# Altium schematic symbol library GhaniLibrary.SchLib: 58 symbols
Pins are listed as number, name and electrical type; pins without a type are passive.

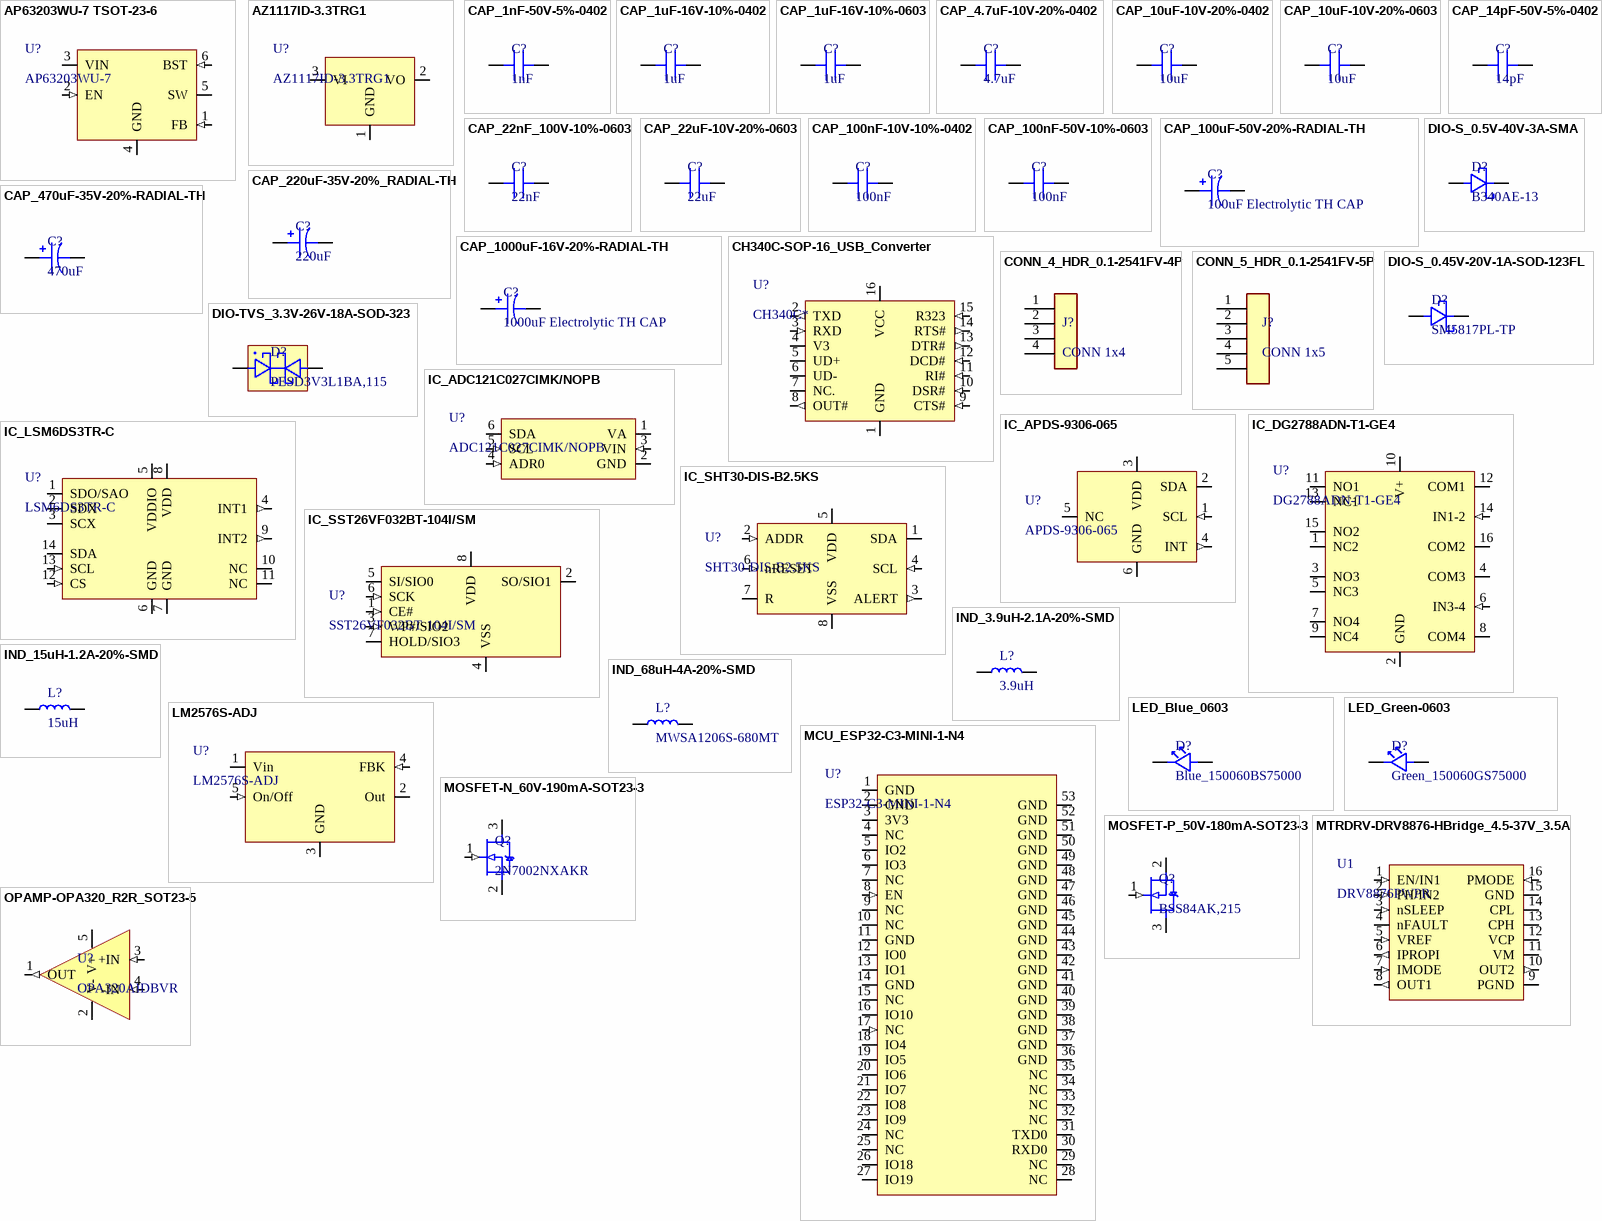
[diagram p0: symbols AP63203WU-7 TSOT-23-6 to OPAMP-OPA320_R2R_SOT23-5]

## AP63203WU-7 TSOT-23-6
designator U?, comment AP63203WU-7
Buck Switching Regulator IC Positive Fixed 3.3V 1 Output 2A SOT-23-6 Thin, TSOT-23-6; Manufacturer: Diodes Incorporated; Manufacturer Part #: AP63203WU-7; Case/Package: TSOT-23-6; Supplier: JLCPCB; Supplier Part #: C780769
footprint SOT-23-6 Thin, TSOT-23-6 (SOT23, 6-Leads, Body 2.90x2.80mm, Pitch 0.95mm, IPC Medium Density)
pins: 1 FB (in), 2 EN (in), 3 VIN (power), 4 GND (power), 5 SW (power), 6 BST (in)

## AZ1117ID-3.3TRG1
designator U?
Linear Voltage Regulator IC Positive Fixed 1 Output 1A TO-252-3; Manufacturer: Diodes Incorporated; Manufacturer Part #: AZ1117ID-3.3TRG1; Case/Package: TO-252-2; Supplier: JLCPCB; Supplier Part #: C2926306
footprint TO-252-3, DPAK (2 Leads + Tab), SC-63 (D-PAK, 3-Pads (2 Leads + Tab), IPC Medium Density)
pins: 1 GND (power), 2 VO (power), 3 VI (power)

## CAP_1nF-50V-5%-0402
designator C?, comment 1nF
1000 pF ±5% 50V Ceramic Capacitor C0G, NP0 0402 (1005 Metric); Manufacturer: Murata Electronics; Manufacturer Part #: GRM1555C1H102JA01D; Case/Package: 0402; Supplier: JLCPCB; Supplier Part #: C76947
footprint CAP_0402 (Chip Capacitor, 2-Leads, Body 1.00x0.50mm, IPC Medium Density)
pins: 1 0, 2 0

## CAP_1uF-16V-10%-0402
designator C?, comment 1uF
1 µF ±10% 16V Ceramic Capacitor X5R 0402 (1005 Metric); Manufacturer: Samsung Electro-Mechanics; Manufacturer Part #: CL05A105KO5NNNC; Case/Package: 0402; Supplier: JLCPCB; Supplier Part #: C29266
footprint CAP_0402 (Chip Capacitor, 2-Leads, Body 1.00x0.50mm, IPC Medium Density)
pins: 1 0, 2 0

## CAP_1uF-16V-10%-0603
designator C?, comment 1uF
1 µF ±10% 16V Ceramic Capacitor X7R 0603 (1608 Metric); Manufacturer: YAGEO; Manufacturer Part #: CC0603KRX7R7BB105; Case/Package: 0603; Supplier: JLCPCB; Supplier Part #: C106248
footprint CAP_0603 (Chip Capacitor, 2-Leads, Body 1.60x0.80mm, IPC Medium Density)
pins: 1 0, 2 0

## CAP_4.7uF-10V-20%-0402
designator C?, comment 4.7uF
4.7 µF ±20% 10V Ceramic Capacitor X5R 0402 (1005 Metric); Manufacturer: Samsung Electro-Mechanics; Manufacturer Part #: CL05A475MP5NRNC; Case/Package: 0402; Supplier: JLCPCB; Supplier Part #: Supplier Part #
footprint CAP_0402 (Chip Capacitor, 2-Leads, Body 1.00x0.50mm, IPC Medium Density)
pins: 1 0, 2 0

## CAP_10uF-10V-20%-0402
designator C?, comment 10uF
10 µF ±20% 10V Ceramic Capacitor X5R 0402 (1005 Metric); Manufacturer: Murata Electronics; Manufacturer Part #: GRM155R61A106ME11D; Case/Package: 0402; Supplier: JLCPCB; Supplier Part #: C408132
footprint CAP_0402 (Chip Capacitor, 2-Leads, Body 1.00x0.50mm, IPC Medium Density)
pins: 1 0, 2 0

## CAP_10uF-10V-20%-0603
designator C?, comment 10uF
10 µF ±20% 10V Ceramic Capacitor X5R 0603 (1608 Metric); Manufacturer: Murata Electronics; Manufacturer Part #: GRM188R61A106ME69D; Case/Package: 0603; Supplier: JLCPCB; Supplier Part #: C90053
footprint CAP_0603 (Chip Capacitor, 2-Leads, Body 1.60x0.80mm, IPC Medium Density)
pins: 1 0, 2 0

## CAP_14pF-50V-5%-0402
designator C?, comment 14pF
50V 14pF NP0 ±5% 0402 Multilayer Ceramic Capacitors MLCC - SMD/SMT ROHS; Manufacturer: Walsin Tech Corp; Manufacturer Part #: 0402N140J500CT; Case/Package: 0402; Supplier: JLCPCB; Supplier Part #: C458857
footprint CAP_0402 (Chip Capacitor, 2-Leads, Body 1.00x0.50mm, IPC Medium Density)
pins: 1 0, 2 0

## CAP_22nF_100V-10%-0603
designator C?, comment 22nF
0.022 µF ±10% 100V Ceramic Capacitor X7R 0603 (1608 Metric); Manufacturer: Murata Electronics; Manufacturer Part #: GCM188R72A223KA37D; Case/Package: 0603; Supplier: JLCPCB; Supplier Part #: C161234
footprint CAP_0603 (Chip Capacitor, 2-Leads, Body 1.60x0.80mm, IPC Medium Density)
pins: 1 0, 2 0

## CAP_22uF-10V-20%-0603
designator C?, comment 22uF
22 µF ±20% 10V Ceramic Capacitor X5R 0603 (1608 Metric); Manufacturer: Samsung Electro-Mechanics; Manufacturer Part #: CL10A226MP8NUNE; Case/Package: 0603; Supplier: JLCPCB; Supplier Part #: C86295
footprint CAP_0603 (Chip Capacitor, 2-Leads, Body 1.60x0.80mm, IPC Medium Density)
pins: 1 0, 2 0

## CAP_100nF-10V-10%-0402
designator C?, comment 100nF
0.1 µF ±10% 10V Ceramic Capacitor X7R 0402 (1005 Metric); Manufacturer: Samsung Electro-Mechanics; Manufacturer Part #: CL05B104KP5NNNC; Case/Package: 0402; Supplier: JLCPCB; Supplier Part #: C133086
footprint CAP_0402 (Chip Capacitor, 2-Leads, Body 1.00x0.50mm, IPC Medium Density)
pins: 1 0, 2 0

## CAP_100nF-50V-10%-0603
designator C?, comment 100nF
0.1 µF ±10% 50V Ceramic Capacitor X7R 0603 (1608 Metric); Manufacturer: KEMET; Manufacturer Part #: C0603C104K5RACAUTO; Case/Package: 0603; Supplier: JLCPCB; Supplier Part #: C129621
footprint CAP_0603 (Chip Capacitor, 2-Leads, Body 1.60x0.80mm, IPC Medium Density)
pins: 1 0, 2 0

## CAP_100uF-50V-20%-RADIAL-TH
designator C?, comment 100uF Electrolytic TH CAP
100 µF 50 V Aluminum Electrolytic Capacitors Radial, Can 8000 Hrs @ 105°C; Manufacturer: Rubycon; Manufacturer Part #: 50ZLH100MEFC8X11.5; Case/Package: TH,D8xL11.5mm; Supplier: JLCPCB; Supplier Part #: C109393
footprint CAP-THT-Radial__D5.0mmP3.5mm
pins: 1 0, 2 0

## CAP_220uF-35V-20%_RADIAL-TH
designator C?, comment 220uF
220 µF 35 V Aluminum Electrolytic Capacitors Radial, Can 8000 Hrs @ 105°C; Manufacturer: Rubycon; Manufacturer Part #: 35ZLH220MEFC8X11.5; Case/Package: TH,D8xL11.5mm; Supplier: JLCPCB; Supplier Part #: C107639
footprint CAP-THT-Radial__D8.0mmP3.5mm
pins: 1 0, 2 0

## CAP_470uF-35V-20%-RADIAL-TH
designator C?, comment 470uF
470 µF 35 V Aluminum Electrolytic Capacitors Radial, Can 10000 Hrs @ 105°C; Manufacturer: Rubycon; Manufacturer Part #: 35ZLH470MEFC10X16; Case/Package: TH,D10xL16mm; Supplier: JLCPCB; Supplier Part #: C338196
footprint CAP-THT_RADIAL_D10.00mm_P5.00mm
pins: 1 0, 2 0

## CAP_1000uF-16V-20%-RADIAL-TH
designator C?, comment 1000uF Electrolytic TH CAP
1000 µF 16 V Aluminum Electrolytic Capacitors Radial, Can 10000 Hrs @ 105°C; Manufacturer: Rubycon; Manufacturer Part #: 16ZLH1000MEFC10X16; Case/Package: TH,D10xL16mm; Supplier: JLCPCB; Supplier Part #: C338175
footprint CAP-THT_RADIAL_D10.00mm_P5.00mm
pins: 1 0, 2 0

## CH340C-SOP-16_USB_Converter
designator U?, comment CH340C*
2Mbps Transceiver USB 2.0 SOP-16 USB Converters ROHS; Manufacturer: WCH(Jiangsu Qin Heng); Manufacturer Part #: CH340C; Case/Package: SOP-16; Supplier: JLCPCB; Supplier Part #: C7464026
footprint SOP-16 (SOP, 16-Leads, Body 9.90x3.90mm, Pitch 1.27mm, IPC Medium Density)
pins: 1 GND (power), 2 TXD (out), 3 RXD (in), 4 V3 (power), 5 UD+ (io), 6 UD- (io), 7 NC., 8 OUT# (out), 9 CTS# (in), 10 DSR# (in), 11 RI# (in), 12 DCD# (in), 13 DTR# (out), 14 RTS# (out), 15 R323 (in), 16 VCC (power)

## CONN_4_HDR_0.1-2541FV-4P
designator J?, comment CONN 1x4
2.54mm 3A Single Row 4P -40℃~+105℃ 250V Direct Insert 1x4P Top Square Hole Plugin,P=2.54mm Female Headers ROHS; Manufacturer: HanElectricity; Manufacturer Part #: 2541FV-4P; Case/Package: P=2.54mm; Supplier: JLCPCB; Supplier Part #: C18723049
footprint 2541FV-4P
pins: 1, 2, 3, 4

## CONN_5_HDR_0.1-2541FV-5P
designator J?, comment CONN 1x5
2.54mm 3A Single Row -40℃~+105℃ 250V 5P Direct Insert 1x5P Top Square Hole Plugin,P=2.54mm Female Headers ROHS; Manufacturer: HanElectricity; Manufacturer Part #: 2541FV-5P; Case/Package: P=2.54mm; Supplier: JLCPCB; Supplier Part #: C18723050
footprint 2541FV-5P
pins: 1, 2, 3, 4, 5

## DIO-S_0.5V-40V-3A-SMA
designator D?, comment B340AE-13
Diode 40 V 3A Surface Mount SMA; Manufacturer: DIODES INCORPORATED; Manufacturer Part #: B340AE-13; Case/Package: SMA; Supplier: JLCPCB; Supplier Part #: C168859
footprint DO-214AC, SMA
pins: A 1, K 2

## DIO-S_0.45V-20V-1A-SOD-123FL
designator D?, comment SM5817PL-TP
Diode 20 V 1A Surface Mount SOD-123FL; Manufacturer: MCC(Micro Commercial Components); Manufacturer Part #: SM5817PL-TP; Case/Package: SOD-123FL; Supplier: JLCPCB; Supplier Part #: C669022
footprint DIO-SOD-123FL
pins: A 1, K 2

## DIO-TVS_3.3V-26V-18A-SOD-323
designator D?, comment PESD3V3L1BA,115
26V Clamp 18A (8/20µs) Ipp Tvs Diode Surface Mount SOD-323; Manufacturer: Nexperia; Manufacturer Part #: PESD3V3L1BA,115; Case/Package: SOD-323; Supplier: JLCPCB; Supplier Part #: C51450
footprint SC-76, SOD-323 (SODFL, 2-Leads, Body 1.25x2.50mm, IPC Medium Density)
pins: K1 1, K2 2

## IC_ADC121C027CIMK/NOPB
designator U?, comment ADC121C027CIMK/NOPB
12 Bit Analog to Digital Converter 1 Input 1 SAR TSOT-23-6; Manufacturer: Texas Instruments; Manufacturer Part #: ADC121C027CIMK/NOPB; Case/Package: TSOT-23-6L; Supplier: JLCPCB; Supplier Part #: C201638
footprint SOT-23-6 Thin, TSOT-23-6 (SOT23, 6-Leads, Body 2.90x2.80mm, Pitch 0.95mm, IPC Medium Density)
pins: 1 VA (power), 2 GND (power), 3 VIN (in), 4 ADR0 (in), 5 SCL (in), 6 SDA (io)

## IC_APDS-9306-065
designator U?, comment APDS-9306-065
Optical Sensor Ambient 560nm I2C 6-SMD Module; Manufacturer: Broadcom/AVAGO; Manufacturer Part #: APDS-9306-065; Case/Package: 6-SMD Module; Supplier: JLCPCB; Supplier Part #: C2649498
footprint APDS-9306-065
pins: 1 SCL (in), 2 SDA (io), 3 VDD (power), 4 INT (out), 5 NC, 6 GND (power)

## IC_DG2788ADN-T1-GE4
designator U?, comment DG2788ADN-T1-GE4
2 Circuit IC Switch 2:1 500mOhm 16-miniQFN (1.8x2.6); Manufacturer: Vishay Intertech; Manufacturer Part #: DG2788ADN-T1-GE4; Case/Package: UQFN-16(1.8x2.6); Supplier: JLCPCB; Supplier Part #: C222479
footprint UQFN-16-DG2788ADN-T1-GE4 (QFN, 16-Leads, Body 1.80x2.60mm, Pitch 0.40mm, IPC Medium Density)
pins: 1 NC2 (io), 2 GND (power), 3 NO3 (io), 4 COM3 (io), 5 NC3 (io), 6 IN3-4 (in), 7 NO4 (io), 8 COM4 (io), 9 NC4 (io), 10 V+ (power), 11 NO1 (io), 12 COM1 (io), 13 NC1 (io), 14 IN1-2 (in), 15 NO2 (io), 16 COM2 (io)

## IC_LSM6DS3TR-C
designator U?, comment LSM6DS3TR-C
Accelerometer, Gyroscope, Temperature, 6 Axis Sensor I2C, SPI Output; Manufacturer: STMicroelectronics; Manufacturer Part #: LSM6DS3TR-C; Case/Package: LGA-14(2.5x3); Supplier: JLCPCB; Supplier Part #: C967633
footprint LGA-14_LSM6DS3TR-C
pins: 1 SDO/SAO (io), 2 SDX (io), 3 SCX (io), 4 INT1 (out), 5 VDDIO (power), 6 GND (power), 7 GND (power), 8 VDD (power), 9 INT2 (out), 10 NC, 11 NC, 12 CS (in), 13 SCL (in), 14 SDA (io)

## IC_SHT30-DIS-B2.5KS
designator U?, comment SHT30-DIS-B2.5KS
Humidity, Temperature 0 ~ 100% RH I2C ±2% RH 8 s Surface Mount; Manufacturer: Sensirion; Manufacturer Part #: SHT30-DIS-B2.5KS; Case/Package: 8-VFDFN Exposed Pad; Supplier: JLCPCB; Supplier Part #: C77361
footprint 8-VFDFN Exposed Pad (QFN, 8-Leads, Body 2.45x2.45mm, Pitch 0.50mm/0.40mm, Thermal Pad 1.10x1.80mm, IPC Medium Density)
pins: 1 SDA (io), 2 ADDR (in), 3 ALERT (out), 4 SCL (in), 5 VDD (power), 6 nRESET (in), 7 R, 8 VSS (power)

## IC_SST26VF032BT-104I/SM
designator U?, comment SST26VF032BT-104I/SM
FLASH Memory IC 32Mbit SPI - Quad I/O 104 MHz 8-SOIJ; Manufacturer: Microchip Tech; Manufacturer Part #: SST26VF032BT-104I/SM; Case/Package: 8-SOIC; Supplier: JLCPCB; Supplier Part #: C69337
footprint 8-SOIC, 5.26x5.25mm (SOIC, 8-Leads, Body 5.26x5.25mm, Pitch 1.27mm, IPC Medium Density)
pins: 1 CE# (in), 2 SO/SIO1 (io), 3 WP#/SIO2 (in), 4 VSS (power), 5 SI/SIO0 (io), 6 SCK (in), 7 HOLD/SIO3 (io), 8 VDD (power)

## IND_3.9uH-2.1A-20%-SMD
designator L?, comment 3.9uH
3.9 µH Shielded Drum Core, Wirewound Inductor 1.5 A 115mOhm Max Nonstandard; Manufacturer: Sunlord; Manufacturer Part #: SPH3015H3R9MT; Case/Package: SMD,3x3mm; Supplier: JLCPCB; Supplier Part #: C431700
footprint IND_SMD-3.00MMX3.00MM (Precision Wire Wound Inductor, 2-Leads, Body 3.00x3.00mm, IPC Medium Density)
pins: 1, 2

## IND_15uH-1.2A-20%-SMD
designator L?, comment 15uH
15 µH Shielded Drum Core, Wirewound Inductor 1.2 A 198mOhm Max Nonstandard; Manufacturer: Taiyo Yuden; Manufacturer Part #: NRS5020T150MMGJ; Case/Package: SMD,4.9x4.9mm; Supplier: JLCPCB; Supplier Part #: C222920
footprint IND-SMD_ 4.90x4.90mm (Precision Wire Wound Inductor, 2-Leads, Body 4.90x4.90mm, IPC Medium Density)
pins: 1, 2

## IND_68uH-4A-20%-SMD
designator L?, comment MWSA1206S-680MT
68 µH Shielded Drum Core, Wirewound Inductor 4 A 140mOhm Max Nonstandard; Manufacturer: Sunlord; Manufacturer Part #: MWSA1206S-680MT; Case/Package: SMD,13.5x12.6mm; Supplier: JLCPCB; Supplier Part #: C408532
footprint IND-SMD_13.45x12.45mm (Precision Wire Wound Inductor, 2-Leads, Body 13.45x12.45mm, IPC Medium Density)
pins: 1, 2

## LED_Blue_0603
designator D?, comment Blue_150060BS75000
Blue 470nm LED Indication - Discrete 3.2V 0603 (1608 Metric); Manufacturer: Wurth Elektronik; Manufacturer Part #: 150060BS75000; Case/Package: 0603; Supplier: JLCPCB; Supplier Part #: C5197644
footprint LED_0603
pins: 1, 2

## LED_Green-0603
designator D?, comment Green_150060GS75000
Green 520nm LED Indication - Discrete 3.2V 0603 (1608 Metric); Manufacturer: Wurth Elektronik; Manufacturer Part #: 150060GS75000; Case/Package: 0603; Supplier: JLCPCB; Supplier Part #: C5252984
footprint LED_0603
pins: 1, 2

## LM2576S-ADJ
designator U?
Buck Switching Regulator IC Positive Adjustable 1 Output 3A TO-263-6, D2PAK (5 Leads + Tab), TO-263BA; Manufacturer: UMW(Youtai Semiconductor Co., Ltd.); Manufacturer Part #: LM2576S-ADJ; Case/Package: TO-263-5; Supplier: JLCPCB; Supplier Part #: C347415
footprint TO-263-6, D2PAK (5 Leads + Tab), TO-263BA (D2-PAK, 6-Pads (5 Leads + Tab), Body 7.55x8.56mm (max), IPC Medium Density)
pins: 1 Vin (power), 2 Out (power), 3 GND (power), 4 FBK (in), 5 On/Off (in)

## MCU_ESP32-C3-MINI-1-N4
designator U?, comment ESP32-C3-MINI-1-N4
Bluetooth, WiFi 802.11b/g/n, Bluetooth v5.0 Transceiver Module 2.412GHz ~ 2.484GHz PCB Trace Surface Mount; Manufacturer: Espressif Systems; Manufacturer Part #: ESP32-C3-MINI-1-N4; Case/Package: 53-SMD Module; Supplier: JLCPCB; Supplier Part #: C2838502
footprint ESP32­C3­MINI­1
pins: 1 GND (power), 2 GND (power), 3 3V3 (power), 4 NC, 5 IO2 (io), 6 IO3 (io), 7 NC, 8 EN (in), 9 NC, 10 NC, 11 GND (power), 12 IO0 (io), 13 IO1 (io), 14 GND (power), 15 NC, 16 IO10 (io), 17 NC (in), 18 IO4 (io), 19 IO5 (io), 20 IO6 (io), 21 IO7 (io), 22 IO8 (io), 23 IO9 (io), 24 NC, 25 NC, 26 IO18 (io), 27 IO19 (io), 28 NC, 29 NC, 30 RXD0 (io), 31 TXD0 (io), 32 NC, 33 NC, 34 NC, 35 NC, 36 GND (power), 37 GND (power), 38 GND (power), 39 GND (power), 40 GND (power), 41 GND (power), 42 GND (power), 43 GND (power), 44 GND (power), 45 GND (power), 46 GND (power), 47 GND (power), 48 GND (power), 49 GND (power), 50 GND (power), 51 GND (power), 52 GND (power), 53 GND (power)

## MOSFET-N_60V-190mA-SOT23-3
designator Q?, comment 2N7002NXAKR
N-Channel 60 V 190mA (Ta), 300mA (Tc) 265mW (Ta), 1.33W (Tc) Surface Mount TO-236AB; Manufacturer: Nexperia; Manufacturer Part #: 2N7002NXAKR; Case/Package: SOT23-3; Supplier: JLCPCB; Supplier Part #: C551416
footprint SOT23-3 (SOT23, 3-Leads, Body 2.90x2.30mm, Pitch 0.95mm, IPC Medium Density)
pins: 1 G (in), 2 S, 3 D

## MOSFET-P_50V-180mA-SOT23-3
designator Q?, comment BSS84AK,215
P-Channel 50 V 180mA (Ta) 350mW (Ta), 1.14W (Tc) Surface Mount TO-236AB; Manufacturer: Nexperia; Manufacturer Part #: BSS84AK,215; Case/Package: SOT-23-3; Supplier: JLCPCB; Supplier Part #: C127273
footprint SOT23-3 (SOT23, 3-Leads, Body 2.90x2.30mm, Pitch 0.95mm, IPC Medium Density)
pins: 1 G (in), 2 S, 3 D

## MTRDRV-DRV8876-HBridge_4.5-37V_3.5A
designator U1, comment DRV8876PWPR
DRV8876 H-Bridge Motor Driver With Integrated Current Sense and Regulation 16-HTSSOP; Manufacturer: Texas Instruments; Manufacturer Part #: DRV8876PWPR; Case/Package: HTSSOP-16-EP; Supplier: JLCPCB; Supplier Part #: C575551
footprint 16-HTSSOP (HTSSOP, 16-Leads, Body 5.00x4.40mm, Pitch 0.65mm, Thermal Pad 2.31x2.46mm, IPC Medium Density)
pins: 1 EN/IN1 (in), 2 PH/IN2 (in), 3 nSLEEP (in), 4 nFAULT (oc), 5 VREF (in), 6 IPROPI (out), 7 IMODE (in), 8 OUT1 (out), 9 PGND (power), 10 OUT2 (out), 11 VM (power), 12 VCP (power), 13 CPH (power), 14 CPL (power), 15 GND (power), 16 PMODE (in)

## OPAMP-OPA320_R2R_SOT23-5
designator U?, comment OPA320AIDBVR
General Purpose Amplifier 1 Circuit Rail-to-Rail SOT-23-5; Manufacturer: Texas Instruments; Manufacturer Part #: OPA320AIDBVR; Case/Package: SOT-23-5; Supplier: JLCPCB; Supplier Part #: C92494
footprint SOT-23-5 (SOT23, 5-Leads, Body 2.90x2.80mm, Pitch 0.95mm, IPC Medium Density)
pins: 1 OUT (out), 2 V- (power), 3 +IN (in), 4 -IN (in), 5 V+ (power)

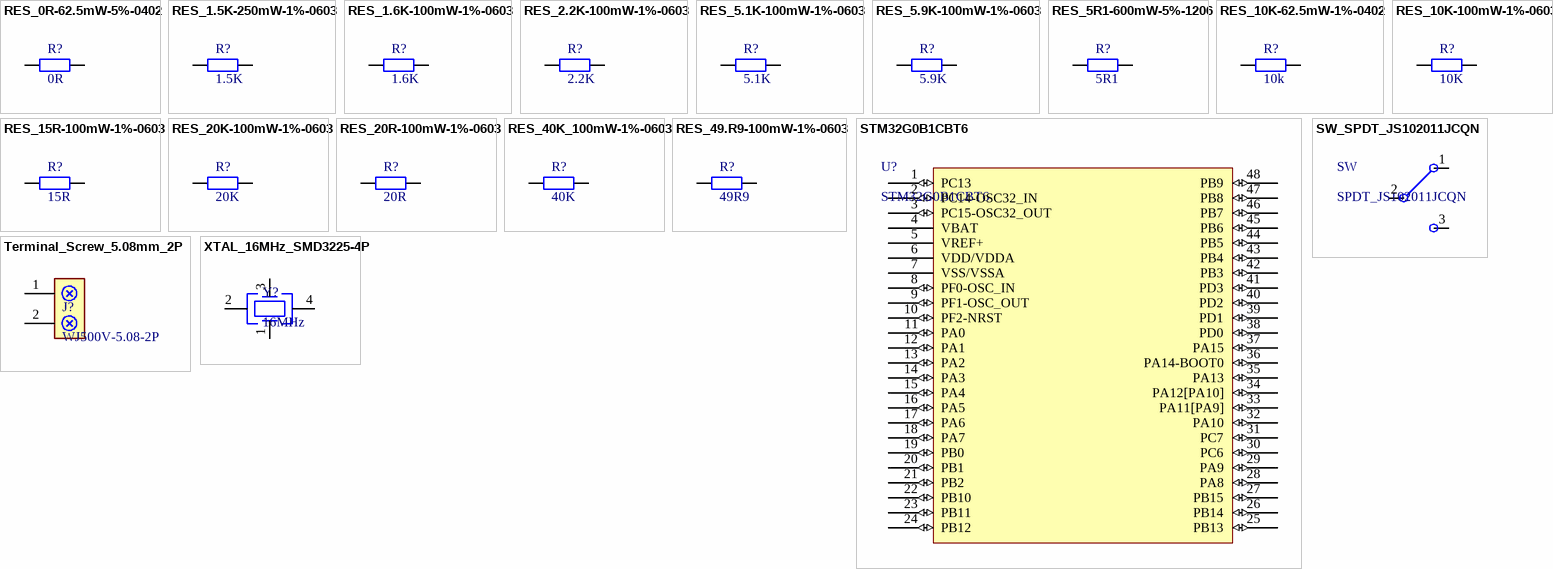
[diagram p1: symbols RES_0R-62.5mW-5%-0402 to XTAL_16MHz_SMD3225-4P]

## RES_0R-62.5mW-5%-0402
designator R?, comment 0R
0 Ohms Jumper Chip Resistor 0402 (1005 Metric) Moisture Resistant Thick Film; Manufacturer: YAGEO; Manufacturer Part #: RC0402JR-070RL; Case/Package: 0402; Supplier: JLCPCB; Supplier Part #: C60485
footprint RES_0402 (Chip Resistor, 2-Leads, Body 1.00x0.50mm, IPC Medium Density)
pins: 1, 2

## RES_1.5K-250mW-1%-0603
designator R?, comment 1.5K
RES 1.5K OHM 1% 250mW SMD-0603 Thick film Resistor; Manufacturer: PANASONIC; Manufacturer Part #: ERJPA3F1501V; Case/Package: 0603; Supplier: JLCPCB; Supplier Part #: C543357
footprint RES_0603 (Chip Resistor, 2-Leads, Body 1.60x0.80mm, IPC Medium Density)
pins: 1, 2

## RES_1.6K-100mW-1%-0603
designator R?, comment 1.6K
1.6 kOhms ±1% 0.1W, 1/10W Chip Resistor 0603 (1608 Metric) Moisture Resistant Thick Film; Manufacturer: BOURNS; Manufacturer Part #: CR0603-FX-1601ELF; Case/Package: 0603; Supplier: JLCPCB; Supplier Part #: C203329
footprint RES_0603 (Chip Resistor, 2-Leads, Body 1.60x0.80mm, IPC Medium Density)
pins: 1, 2

## RES_2.2K-100mW-1%-0603
designator R?, comment 2.2K
2.2 kOhms ±1% 0.1W, 1/10W Chip Resistor 0603 (1608 Metric) Moisture Resistant Thick Film; Manufacturer: YAGEO; Manufacturer Part #: RC0603FR-072K2L; Case/Package: 0603; Supplier: JLCPCB; Supplier Part #: C114662
footprint RES_0603 (Chip Resistor, 2-Leads, Body 1.60x0.80mm, IPC Medium Density)
pins: 1, 2

## RES_5.1K-100mW-1%-0603
designator R?, comment 5.1K
5.1 kOhms ±1% 0.1W, 1/10W Chip Resistor 0603 (1608 Metric) Moisture Resistant Thick Film; Manufacturer: YAGEO; Manufacturer Part #: RC0603FR-075K1L; Case/Package: 0603; Supplier: JLCPCB; Supplier Part #: C105580
footprint RES_0603 (Chip Resistor, 2-Leads, Body 1.60x0.80mm, IPC Medium Density)
pins: 1, 2

## RES_5.9K-100mW-1%-0603
designator R?, comment 5.9K
RES 5.9K OHM 1% 100mW SMD-0603 Thick film Resistor; Manufacturer: PANASONIC; Manufacturer Part #: ERJ3EKF5901V; Case/Package: 0603; Supplier: JLCPCB; Supplier Part #: C403290
footprint RES_0603 (Chip Resistor, 2-Leads, Body 1.60x0.80mm, IPC Medium Density)
pins: 1, 2

## RES_5R1-600mW-5%-1206
designator R?, comment 5R1
600mW Thick Film Resistors 200V ±5% ±400ppm/℃ 5.1Ω 1206 Chip Resistor - Surface Mount; Manufacturer: UNI-ROYAL(Uniroyal Elec); Manufacturer Part #: AS0606J051JT5E; Case/Package: 1206; Supplier: JLCPCB; Supplier Part #: C966043
footprint RES_1206 (Chip Resistor, 2-Leads, Body 3.10x1.60mm, IPC Medium Density)
pins: 1, 2

## RES_10K-62.5mW-1%-0402
designator R?, comment 10k
10 kOhms ±1% 0.063W, 1/16W Chip Resistor 0402 (1005 Metric) Moisture Resistant Thick Film; Manufacturer: YAGEO; Manufacturer Part #: RC0402FR-0710KL; Case/Package: 0402; Supplier: JLCPCB; Supplier Part #: C60490
footprint RES_0402 (Chip Resistor, 2-Leads, Body 1.00x0.50mm, IPC Medium Density)
pins: 1, 2

## RES_10K-100mW-1%-0603
designator R?, comment 10K
10 kOhms ±1% 0.1W, 1/10W Chip Resistor 0603 (1608 Metric) Moisture Resistant Thick Film; Manufacturer: YAGEO; Manufacturer Part #: RC0603FR-0710KL; Case/Package: 0603; Supplier: JLCPCB; Supplier Part #: C98220
footprint RES_0603 (Chip Resistor, 2-Leads, Body 1.60x0.80mm, IPC Medium Density)
pins: 1, 2

## RES_15R-100mW-1%-0603
designator R?, comment 15R
15 Ohms ±1% 0.1W, 1/10W Chip Resistor 0603 (1608 Metric) Automotive AEC-Q200 Thick Film; Manufacturer: PANASONIC; Manufacturer Part #: ERJ3EKF15R0V; Case/Package: 0603; Supplier: JLCPCB; Supplier Part #: C403005
footprint RES_0603 (Chip Resistor, 2-Leads, Body 1.60x0.80mm, IPC Medium Density)
pins: 1, 2

## RES_20K-100mW-1%-0603
designator R?, comment 20K
20 kOhms ±1% 0.1W, 1/10W Chip Resistor 0603 (1608 Metric) Automotive AEC-Q200 Thick Film; Manufacturer: PANASONIC; Manufacturer Part #: ERJ-3EKF2002V; Case/Package: 0603; Supplier: JLCPCB; Supplier Part #: C403057
footprint RES_0603 (Chip Resistor, 2-Leads, Body 1.60x0.80mm, IPC Medium Density)
pins: 1, 2

## RES_20R-100mW-1%-0603
designator R?, comment 20R
20 Ohms ±1% 0.1W, 1/10W Chip Resistor 0603 (1608 Metric) Moisture Resistant Thick Film; Manufacturer: YAGEO; Manufacturer Part #: RC0603FR-0720RL; Case/Package: 0603; Supplier: JLCPCB; Supplier Part #: C125758
footprint RES_0603 (Chip Resistor, 2-Leads, Body 1.60x0.80mm, IPC Medium Density)
pins: 1, 2

## RES_40K_100mW-1%-0603
designator R?, comment 40K
40 kOhms ±0.1% 0.1W, 1/10W Chip Resistor 0603 (1608 Metric) Anti-Sulfur, Automotive AEC-Q200, Moisture Resistant Thin Film; Manufacturer: YAGEO; Manufacturer Part #: AT0603BRD0740KL; Case/Package: 0603; Supplier: JLCPCB; Supplier Part #: C5455515
footprint RES_0603 (Chip Resistor, 2-Leads, Body 1.60x0.80mm, IPC Medium Density)
pins: 1, 2

## RES_49.R9-100mW-1%-0603
designator R?, comment 49R9
49.9 Ohms ±1% 0.1W, 1/10W Chip Resistor 0603 (1608 Metric) Automotive AEC-Q200 Thick Film; Manufacturer: PANASONIC; Manufacturer Part #: ERJ3EKF49R9V; Case/Package: 0603; Supplier: JLCPCB; Supplier Part #: C403255
footprint RES_0603 (Chip Resistor, 2-Leads, Body 1.60x0.80mm, IPC Medium Density)
pins: 1, 2

## STM32G0B1CBT6
designator U?
ARM® Cortex®-M0+ STM32G0 Microcontroller IC 32-Bit Single-Core 64MHz 128KB (128K x 8) FLASH 48-LQFP (7x7); Manufacturer: STMicroelectronics; Manufacturer Part #: STM32G0B1CBT6; Case/Package: 48-LQFP (7x7); Supplier: JLCPCB; Supplier Part #: C2847904
footprint 48-LQFP (7x7mm) (LQFP, 48-Leads, Body 7.00x7.00mm, Pitch 0.50mm, IPC Medium Density)
pins: 1 PC13 (io), 2 PC14-OSC32_IN (io), 3 PC15-OSC32_OUT (io), 4 VBAT (power), 5 VREF+ (power), 6 VDD/VDDA (power), 7 VSS/VSSA (power), 8 PF0-OSC_IN (io), 9 PF1-OSC_OUT (io), 10 PF2-NRST (io), 11 PA0 (io), 12 PA1 (io), 13 PA2 (io), 14 PA3 (io), 15 PA4 (io), 16 PA5 (io), 17 PA6 (io), 18 PA7 (io), 19 PB0 (io), 20 PB1 (io), 21 PB2 (io), 22 PB10 (io), 23 PB11 (io), 24 PB12 (io), 25 PB13 (io), 26 PB14 (io), 27 PB15 (io), 28 PA8 (io), 29 PA9 (io), 30 PC6 (io), 31 PC7 (io), 32 PA10 (io), 33 PA11[PA9] (io), 34 PA12[PA10] (io), 35 PA13 (io), 36 PA14-BOOT0 (io), 37 PA15 (io), 38 PD0 (io), 39 PD1 (io), 40 PD2 (io), 41 PD3 (io), 42 PB3 (io), 43 PB4 (io), 44 PB5 (io), 45 PB6 (io), 46 PB7 (io), 47 PB8 (io), 48 PB9 (io)

## SW_SPDT_JS102011JCQN
designator SW, comment SPDT_JS102011JCQN
Slide Switch SPDT Surface Mount; Manufacturer: C&K; Manufacturer Part #: JS102011JCQN; Case/Package: SMD; Supplier: JLCPCB; Supplier Part #: C221659
footprint SPDT_Slide-JS102011JCQN
pins: 1, 2, 3

## Terminal_Screw_5.08mm_2P
designator J?, comment WJ500V-5.08-2P
1x2P 5.08mm 2.5 1 2 18A -40℃~+105℃ 250V Green 14~30 Direct Insert Plugin,P=5.08mm Screw Terminal Blocks ROHS; Manufacturer: Ningbo Kangnex Elec; Manufacturer Part #: WJ500V-5.08-2P; Case/Package: P=5.08mm; Supplier: JLCPCB; Supplier Part #: C8465
footprint WJ500V-5.08-2P
pins: 1, 2

## XTAL_16MHz_SMD3225-4P
designator Y?, comment 16MHz
16MHz SMD crystal oscillator 12pF ±10ppm ±30ppm SMD3225-4P Crystals ROHS; Manufacturer: SJK(SHENZHEN CRYSTAL TECH); Manufacturer Part #: 7U16000E12UCG; Case/Package: SMD3225-4P; Supplier: JLCPCB; Supplier Part #: C251610
footprint SMD3225-4P
pins: 1 OSC, 2 GND (power), 3 OSC, 4 GND (power)